# Altium footprint library USB4105-GF-A.PcbLib: 1 footprints
Each footprint in its own frame and in the unit in brackets; x right, y up, seen from the top. Pads: shape width x height; smd on the part's side, far side on the other; paste and mask are expansions set on the pad; w line width, h text height; cw(c..) or ccw(c..) is an arc to the next point about the centre after c.
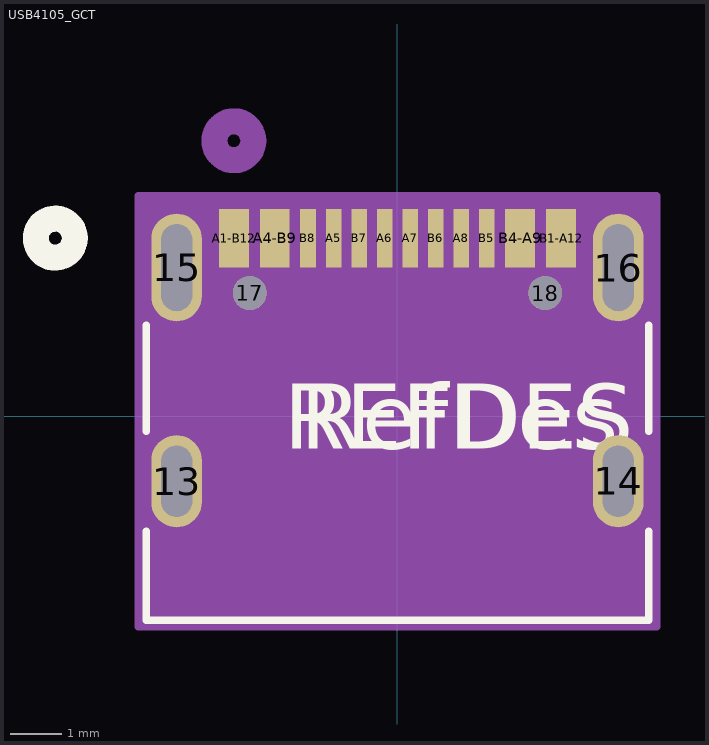
[diagram p0: the footprint, top view; thin cyan lines are the x and y axes]

## USB4105_GCT [mil]
pads (18):
  oval 39x71 / inner oval 39x71 / far side round 60 hole 55 slot 24 at 0 deg paste-35.5 mask-35.5: 13(-170.08,-49.97) 14(170.08,-49.97)
  oval 39x83 / inner oval 39x83 / far side round 60 hole 67 slot 24 at 0 deg paste-41.5 mask-41.5: 15(-170.08,114.6) 16(170.08,114.6)
  round 26 / inner round 60 / far side round 26 hole 26 unplated paste+0 mask+0: 17(-113.78,94.91) 18(113.78,94.91)
  rect 23x45 smd paste-22.5 mask-22.5: A1-B12(-125.98,137.24) A4-B9(-94.49,137.24) B1-A12(125.98,137.24) B4-A9(94.49,137.24)
  rect 12x45 smd paste+0 mask+0: A5(-49.21,137.24) A6(-9.84,137.24) A7(9.84,137.24) A8(49.21,137.24) B5(68.9,137.24) B6(29.53,137.24) B7(-29.53,137.24) B8(-68.9,137.24)
Top Overlay:
  circle w20: c-263.5,137.24 r15
  lines w6: -193.5,-88.64 -193.5,-157 193.5,-157 193.5,-88.64 ; -193.5,-11.29 -193.5,69.92 ; 193.5,-11.29 193.5,69.92
  text "RefDes" at -75,-25 h50
  text "REFDES" at -87.5,-25 h50
Bottom Overlay:
  circle w20: c-263.5,137.24 r15
Mechanical 13:
  circle w20: c-125.98,212.24 r15
  lines w1: -188.5,-152 188.5,-152 188.5,152 -188.5,152 -188.5,-152
  text "RefDes2" at -87.5,-25 h50
Mechanical 15:
  region: 199.58,169.74 -199.58,169.74 -199.58,-162 199.58,-162
  lines w6: -199.58,-162 -199.58,169.74 199.58,169.74 199.58,-162 -199.58,-162